# Altium schematic symbol library tyco-card-edge.SchLib: 5 symbols
Pins are listed as number, name and electrical type; pins without a type are passive.

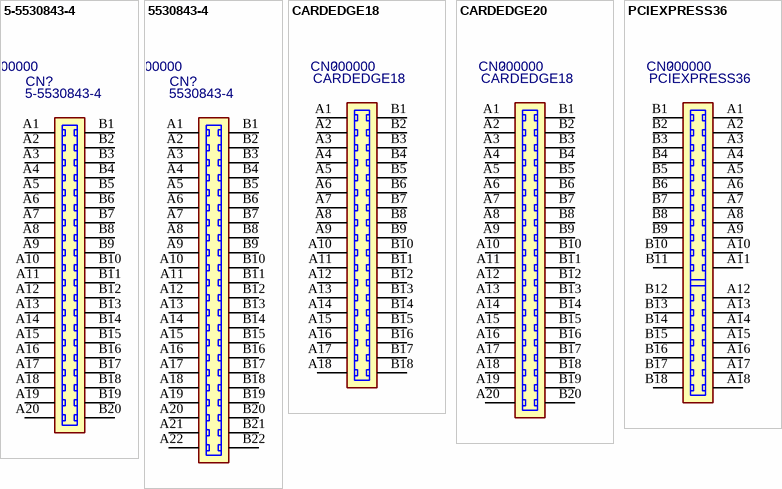
[diagram p0: symbols 5-5530843-4 to PCIEXPRESS36]

## 5-5530843-4
designator CN?, comment 000000  value 5-5530843-4
20pos, 2.54mm Card Edge Connector; MF: TE Connectivity; PN: 000000; Package: PTH; ExtraInfo: *; MF PN: 5-5530843-4
footprint 5-5530843-4 (40pos, 2.54mm Card Edge Connector)
pins: A1, A2, A3, A4, A5, A6, A7, A8, A9, A10, A11, A12, A13, A14, A15, A16, A17, A18, A19, A20, B1, B2, B3, B4, B5, B6, B7, B8, B9, B10, B11, B12, B13, B14, B15, B16, B17, B18, B19, B20

## 5530843-4
designator CN?, comment 000000  value 5530843-4
22pos, 2.54mm Card Edge Connector; MF: TE Connectivity; PN: 000000; Package: PTH; ExtraInfo: *; MF PN: 5530843-4
footprint 5530843-4 (44pos, 2.54mm Card Edge Connector)
pins: A1, A2, A3, A4, A5, A6, A7, A8, A9, A10, A11, A12, A13, A14, A15, A16, A17, A18, A19, A20, A21, A22, B1, B2, B3, B4, B5, B6, B7, B8, B9, B10, B11, B12, B13, B14, B15, B16, B17, B18, B19, B20, B21, B22

## CARDEDGE18
designator CN?, comment 000000  value CARDEDGE18
18pos, 2.54mm Card Edge Connector; PN: 000000; Package: PTH; ExtraInfo: *
footprint 5530843-3 (18pos, 2.54mm Card Edge Connector)
pins: A1, A2, A3, A4, A5, A6, A7, A8, A9, A10, A11, A12, A13, A14, A15, A16, A17, A18, B1, B2, B3, B4, B5, B6, B7, B8, B9, B10, B11, B12, B13, B14, B15, B16, B17, B18

## CARDEDGE20
designator CN?, comment 000000  value CARDEDGE18
20pos, 2.54mm Card Edge Connector; PN: 000000; Package: PTH; ExtraInfo: *
footprint 5-5530843-4 (40pos, 2.54mm Card Edge Connector)
pins: A1, A2, A3, A4, A5, A6, A7, A8, A9, A10, A11, A12, A13, A14, A15, A16, A17, A18, A19, A20, B1, B2, B3, B4, B5, B6, B7, B8, B9, B10, B11, B12, B13, B14, B15, B16, B17, B18, B19, B20

## PCIEXPRESS36
designator CN?, comment 000000  value PCIEXPRESS36
18pos, 1.0mm, PCI EXpress,  Card Edge Connector; PN: 000000; Package: PTH; ExtraInfo: *
footprint 9-1734774-1 (36pos, 1.0mm, PCI EXpress, Card Edge Connector)
pins: A1 19, A2 20, A3 21, A4 22, A5 23, A6 24, A7 25, A8 26, A9 27, A10 28, A11 29, A12 30, A13 31, A14 32, A15 33, A16 34, A17 35, A18 35, B1 1, B2 2, B3 3, B4 4, B5 5, B6 6, B7 7, B8 8, B9 9, B10 10, B11 11, B12 12, B13 13, B14 14, B15 15, B16 16, B17 17, B18 18